# Altium footprint library Res_Vishay_CRCW251210K0FKEG_10kOhm_IPC_A.PcbLib: 1 footprints
Each footprint in its own frame and in the unit in brackets; x right, y up, seen from the top. Pads: shape width x height; smd on the part's side, far side on the other; paste and mask are expansions set on the pad; w line width, h text height; cw(c..) or ccw(c..) is an arc to the next point about the centre after c.
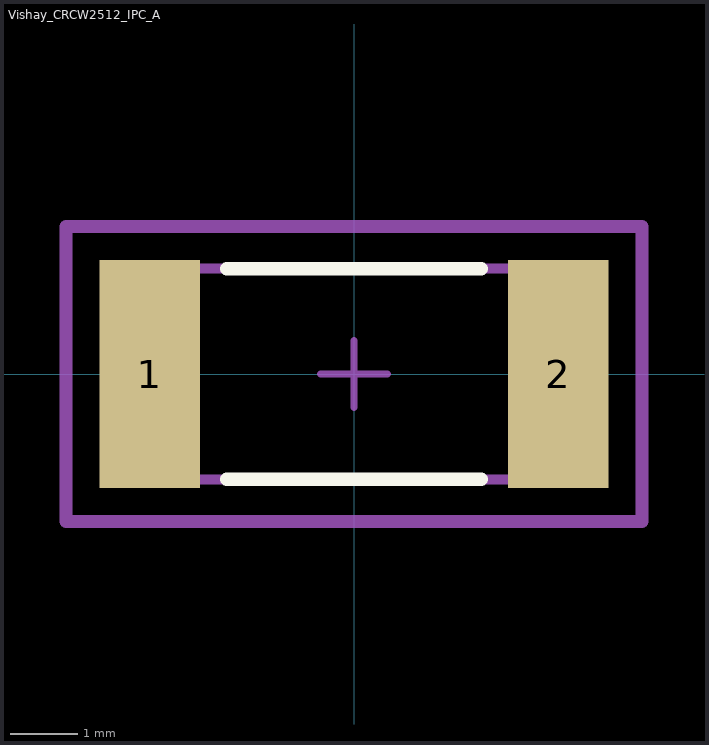
[diagram p0: the footprint, top view; thin cyan lines are the x and y axes]

## Vishay_CRCW2512_IPC_A [mm]
pads (2):
  rect 1.505x3.408 smd paste+0 mask+0: 1(-3.051,0) 2(3.051,0)
Top Overlay:
  lines w0.2: -1.9,-1.575 1.9,-1.575 ; -1.9,1.575 1.9,1.575
Mechanical 10:
  lines w0.2: -4.303,-2.204 -4.303,2.204 4.303,2.204 4.303,-2.204 -4.303,-2.204
  text ".Designator" at 0,0 h1
Mechanical 12:
  lines w0.15: -3.15,-1.575 -3.15,1.575 3.15,1.575 3.15,-1.575 -3.15,-1.575
Mechanical 15:
  lines w0.1: -0.5,0 0.5,0 ; 0,-0.5 0,0.5
  lines w0.2: -4.303,-2.204 -4.303,2.204 4.303,2.204 4.303,-2.204 -4.303,-2.204
3D body "Res_Vishay_CRCW251210K0FKEG_eec.STEP": height 0.25, standoff 0, extent -4.303,-2.204 4.303,2.204